# Altium schematic symbol library Components.SchLib: 5 symbols
Pins are listed as number, name and electrical type; pins without a type are passive.

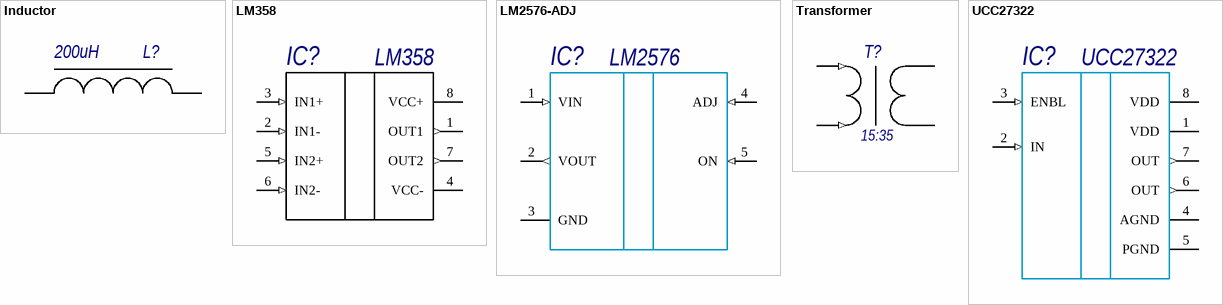
[diagram p0: symbols Inductor to UCC27322]

## Inductor
designator L?, comment 200uH
footprint Inductor
pins: 1, 2

## LM358
designator IC?
OP AMP
footprint SOIC127P600X175-8N
pins: 1 OUT1 (out), 2 IN1- (in), 3 IN1+ (in), 4 VCC- (power), 5 IN2+ (in), 6 IN2- (in), 7 OUT2 (out), 8 VCC+ (power)

## LM2576-ADJ
designator IC?, comment LM2576
Buck-boost converter
footprint LM2576
pins: 1 VIN (in) "Информационный вход Х6", 2 VOUT (out) "Информационный вход Х6", 3 GND (power) "Информационный вход Х6", 4 ADJ (in) "Информационный вход Х6", 5 ON (in) "Информационный вход Х6"

## Transformer
designator T?, comment 15:35
footprint Transformer
pins: 1 (in) "Информационный вход Х6", 2 (in) "Информационный вход Х6", 3 "Информационный вход Х6", 4 "Информационный вход Х6"

## UCC27322
designator IC?
Single 9-A High-Speed Low-Side Mosfet Driver With Enable
footprint SOIC127P599X175-8N
pins: 1 VDD (power), 2 IN (in), 3 ENBL (in), 4 AGND (power), 5 PGND (power), 6 OUT (out), 7 OUT (out), 8 VDD (power)